# Altium schematic symbol library jlcpcb_2025_04_ferrites_basic.schlib: 3 symbols
Pins are listed as number, name and electrical type; pins without a type are passive.

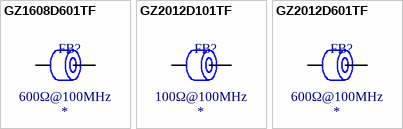
[diagram p0: symbols GZ1608D601TF to GZ2012D601TF]

## GZ1608D601TF
designator FB?  Impedance @ Frequency: 600Ω@100MHz
Ferrite, 600Ω@100MHz, ±25%, 450mΩ, 200mA, SMD 0603; Manufacturer: Sunlord; Manufacturer Part Number: GZ1608D601TF; Package Size: 0603; JLCPCB Basic Part: Yes; JLCPCB Part Number: C1002; Supplier 1: LCSC; Category: Ferrite Beads; Supplier Part Number 1: C1002; Tolerance: ±25%; Rated Current: 200mA; DC Resistance: 450mΩ; RoHS: Yes; ComponentLink1Description: Datasheet; ComponentLink1URL: https://wmsc.lcsc.com/wmsc/upload/file/pdf/v2/lcsc/2310301640_Sunlord-GZ1608D601TF_C1002.pdf; ComponentLink2Description: JLCPCB Part URL; ComponentLink2URL: https://jlcpcb.com/partdetail/C1002; ComponentLink3Description: LCSC Part URL; ComponentLink3URL: https://lcsc.com/product-detail/Ferrite-Beads_Sunlord-Sunlord-GZ1608D601TF_C1002.html
footprint FB-0603 (0603 (1608M) Ferrite)
pins: 1, 2

## GZ2012D101TF
designator FB?  Impedance @ Frequency: 100Ω@100MHz
Ferrite, 100Ω@100MHz, ±25%, 800mA, SMD 0805; Manufacturer: Sunlord; Manufacturer Part Number: GZ2012D101TF; Package Size: 0805; JLCPCB Basic Part: Yes; JLCPCB Part Number: C1015; Supplier 1: LCSC; Category: Ferrite Beads; Supplier Part Number 1: C1015; Tolerance: ±25%; Rated Current: 800mA; RoHS: Yes; ComponentLink1Description: Datasheet; ComponentLink1URL: https://wmsc.lcsc.com/wmsc/upload/file/pdf/v2/lcsc/2310301640_Sunlord-GZ2012D101TF_C1015.pdf; ComponentLink2Description: JLCPCB Part URL; ComponentLink2URL: https://jlcpcb.com/partdetail/C1015; ComponentLink3Description: LCSC Part URL; ComponentLink3URL: https://lcsc.com/product-detail/Ferrite-Beads_Sunlord-Sunlord-GZ2012D101TF_C1015.html
pins: 1, 2

## GZ2012D601TF
designator FB?  Impedance @ Frequency: 600Ω@100MHz
Ferrite, 600Ω@100MHz, ±25%, 300mΩ, 500mA, SMD 0805; Manufacturer: Sunlord; Manufacturer Part Number: GZ2012D601TF; Package Size: 0805; JLCPCB Basic Part: Yes; JLCPCB Part Number: C1017; Supplier 1: LCSC; Category: Ferrite Beads; Supplier Part Number 1: C1017; Tolerance: ±25%; Rated Current: 500mA; DC Resistance: 300mΩ; RoHS: Yes; ComponentLink1Description: Datasheet; ComponentLink1URL: https://wmsc.lcsc.com/wmsc/upload/file/pdf/v2/lcsc/2310301640_Sunlord-GZ2012D601TF_C1017.pdf; ComponentLink2Description: JLCPCB Part URL; ComponentLink2URL: https://jlcpcb.com/partdetail/C1017; ComponentLink3Description: LCSC Part URL; ComponentLink3URL: https://lcsc.com/product-detail/Ferrite-Beads_Sunlord-Sunlord-GZ2012D601TF_C1017.html
footprint FB-0805 (0805 (2012M) Ferrite)
pins: 1, 2